# EAGLE library part TCAN332 (library HuskyRobotics2017-18)
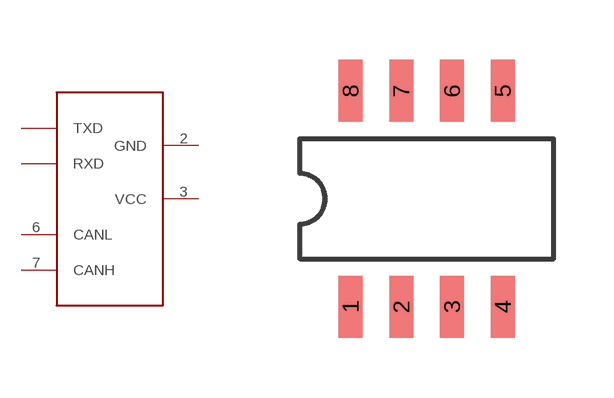
[diagram p2: symbol with the pads of 8SOIC3.9; footprint 8SOIC3.9]

Designator prefix -

## TCAN332TCAN332  [8SOIC3.9]
1  TXD  out
2  GND  pwr
3  VCC  pwr
4  RXD  in
6  CANL
7  CANH

## Footprint 8SOIC3.9 (pad centres in mm)
Description: This footprint is a 3.9mm SOIC device. It was created for the Microchip MCP2561 CAN transciever, as well as the TI TCAN332. <http://www.ti.com/lit/ds/symlink/tcan332.pdf> Foot print based on recommendation of datasheet. Part of Husky Robotics 2017-2018 arm motor boards.
smd 0.6 x 1.55: 1 -1.905,-2.7; 2 -0.635,-2.7; 3 0.635,-2.7; 4 1.905,-2.7; 5 1.905,2.7; 6 0.635,2.7; 7 -0.635,2.7; 8 -1.905,2.7